# EAGLE library part 61201021621 (library 61201021621)
10 way 2.54mm male box Header Wurth Elektronik 612 Series, 2.54mm Pitch 10 Way 2 Row Straight PCB Header, Solder Termination, 3A Source: Datasheet <http://uk.rs-online.com/web/p/products/7718354>
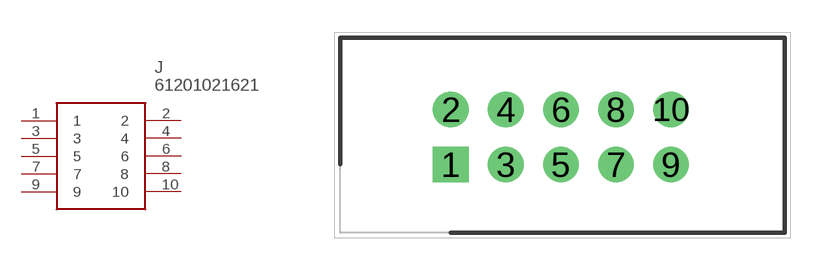
[diagram p0: symbol with the pads of SHDR10W64P254_2X5_2036X885X925; footprint SHDR10W64P254_2X5_2036X885X925]

Designator prefix J

## 61201021621 (Description: 10 way 2.54mm male box Header Wurth Elektronik 612 Series, 2.54mm Pitch 10 Way 2 Row Straight PCB Header, Solder Termination, 3A; Height: 9.25mm; Manufacturer_Name: Wurth Elektronik; Manufacturer_Part_Number: 61201021621; RS_Part_Number: 7718354; RS_Price-Stock: http://uk.rs-online.com/web/p/products/7718354)  [SHDR10W64P254_2X5_2036X885X925]
1  1
2  2
3  3
4  4
5  5
6  6
7  7
8  8
9  9
10  10

## Footprint SHDR10W64P254_2X5_2036X885X925 (pad centres in mm)
61201021621
drill 1.1 pad 1.65 square: 1 0,0
drill 1.1 pad 1.65: 2 0,2.54; 3 2.54,0; 4 2.54,2.54; 5 5.08,0; 6 5.08,2.54; 7 7.62,0; 8 7.62,2.54; 9 10.16,0; 10 10.16,2.54